# EAGLE library part 53048-0910 (library molex-pico)
HEADER
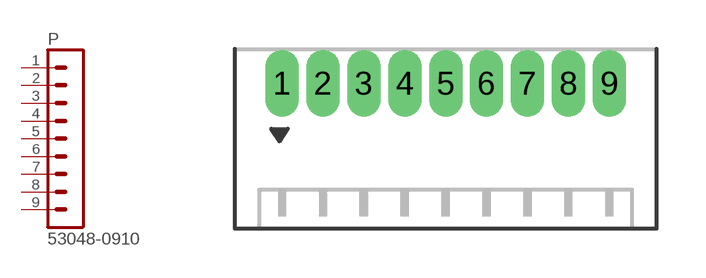
[diagram p13: symbol with the pads of 53048-0910; footprint 53048-0910]

Designator prefix P

## 53048-0910  [53048-0910]
1  1  pas
2  2  pas
3  3  pas
4  4  pas
5  5  pas
6  6  pas
7  7  pas
8  8  pas
9  9  pas

## Footprint 53048-0910 (pad centres in mm)
HEADER
drill 0.508 long: 1 -5,0; 2 -3.75,0; 3 -2.5,0; 4 -1.25,0; 5 0,0; 6 1.25,0; 7 2.5,0; 8 3.75,0; 9 5,0